# EAGLE library part 87832-36 (library con-molex-milli-grid)
HEADER
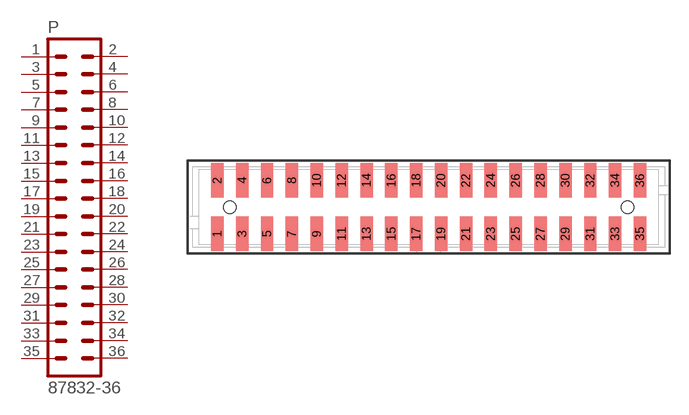
[diagram p106: symbol with the pads of 87832-36; footprint 87832-36]

Designator prefix P

## 87832-36  [87832-36]
1  1  pas
2  2  pas
3  3  pas
4  4  pas
5  5  pas
6  6  pas
7  7  pas
8  8  pas
9  9  pas
10  10  pas
11  11  pas
12  12  pas
13  13  pas
14  14  pas
15  15  pas
16  16  pas
17  17  pas
18  18  pas
19  19  pas
20  20  pas
21  21  pas
22  22  pas
23  23  pas
24  24  pas
25  25  pas
26  26  pas
27  27  pas
28  28  pas
29  29  pas
30  30  pas
31  31  pas
32  32  pas
33  33  pas
34  34  pas
35  35  pas
36  36  pas

## Footprint 87832-36 (pad centres in mm)
HEADER SMD Dual Row, Shrouded, Vertical
smd 1 x 2.75: 1 -17,-2.15; 2 -17,2.15; 3 -15,-2.15; 4 -15,2.15; 5 -13,-2.15; 6 -13,2.15; 7 -11,-2.15; 8 -11,2.15; 9 -9,-2.15; 10 -9,2.15; 11 -7,-2.15; 12 -7,2.15; 13 -5,-2.15; 14 -5,2.15; 15 -3,-2.15; 16 -3,2.15; 17 -1,-2.15; 18 -1,2.15; 19 1,-2.15; 20 1,2.15; 21 3,-2.15; 22 3,2.15; 23 5,-2.15; 24 5,2.15; 25 7,-2.15; 26 7,2.15; 27 9,-2.15; 28 9,2.15; 29 11,-2.15; 30 11,2.15; 31 13,-2.15; 32 13,2.15; 33 15,-2.15; 34 15,2.15; 35 17,-2.15; 36 17,2.15
hole 1 at -16,0
hole 1 at 16,0